# EAGLE library part INA21*_?_ (library Development_Board)
Voltage Output, Low- or High-Side Measurement, Bidirectional, Zero-Drift Series, Current-Shunt Monitors Datasheet <http://www.ti.com/lit/ds/symlink/ina212.pdf>
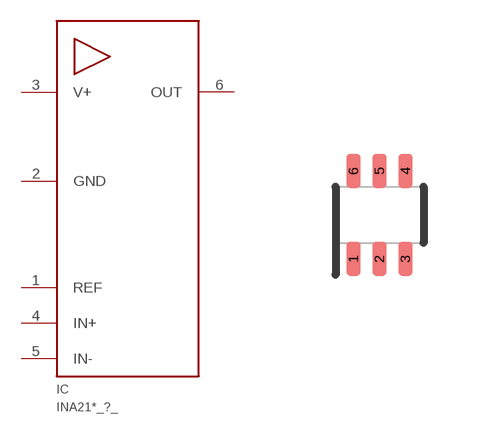
[diagram p0: symbol with the pads of SC70-6; footprint SC70-6]

Designator prefix IC

## INA210_DCK_ (GAIN: 200; VALUE: INA210), INA211_DCK_ (GAIN: 500; VALUE: INA211), INA212_DCK_ (GAIN: 1000; VALUE: INA212), INA213_DCK_ (GAIN: 50; VALUE: INA213), INA214_DCK_ (GAIN: 100; VALUE: INA214), INA215_DCK_ (GAIN: 75; VALUE: INA215)  [SC70-6]
1  REF  in
2  GND  sup
3  V+  sup
4  IN+  in
5  IN-  in
6  OUT  out

## Footprint SC70-6 (pad centres in mm)
TI SOT-23-6
smd 0.35 x 0.85: 1 -0.65,-1.1; 2 0,-1.1; 3 0.65,-1.1; 4 0.65,1.1; 5 0,1.1; 6 -0.65,1.1